# Altium footprint library Fixed_inductor_Pcb.PcbLib: 3 footprints
Each footprint in its own frame and in the unit in brackets; x right, y up, seen from the top. Pads: shape width x height; smd on the part's side, far side on the other; paste and mask are expansions set on the pad; w line width, h text height; cw(c..) or ccw(c..) is an arc to the next point about the centre after c.
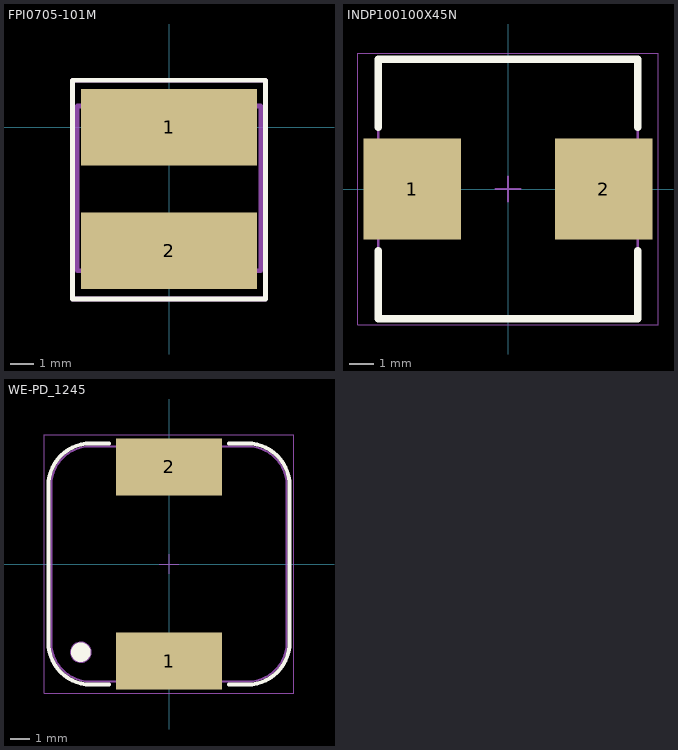
[diagram p0: the footprints below, top view; thin cyan lines are the x and y axes]

## FPI0705-101M [mm]
pads (2):
  rect 7.5x3.25 smd paste+0 mask+0.1: 1(0,0) 2(0,-5.25)
Top Overlay:
  lines w0.2: -4.1,-7.3 4.1,-7.3 4.1,2 -4.1,2 -4.1,-7.3
Mechanical 13:
  lines w0.2: -3.9,-6.1 3.9,-6.1 3.9,0.9 -3.9,0.9 -3.9,-6.1
  text "'.designator'" at -3.45,-5.483 h0.5
Mechanical 15:
  lines w0.2: -4.1,-7.3 4.1,-7.3 4.1,2 -4.1,2 -4.1,-7.3
3D body "fixed inductor 7_3x7_3x4_2.step": height 4.3, standoff 0.01, extent -3.65,-6.3 3.65,1.1

## INDP100100X45N [mm] "Precision Wire Wound Inductor, 2-Leads, Body 10.00x10.00mm, IPC Medium Density"
height 4.5
pads (2):
  rect 3.95x4.1 smd: 1(-3.875,0) 2(3.875,0)
Top Overlay:
  lines w0.3: -5.25,-2.5 -5.25,-5.25 5.25,-5.25 5.25,-2.5 ; -5.25,2.5 -5.25,5.25 5.25,5.25 5.25,2.5
Mechanical 13:
  lines w0.1: -5.25,-5.25 5.25,-5.25 5.25,5.25 -5.25,5.25 -5.25,-5.25
Mechanical 15:
  lines w0.05: -6.075,-5.5 6.075,-5.5 6.075,5.5 -6.075,5.5 -6.075,-5.5
  lines w0.1: -0.5,0 0.5,0 ; 0,-0.5 0,0.5
3D body "fixed_inductor.step": height 7.42, standoff 0.01, extent -6,-6 6,6

## WE-PD_1245 [mm] "SMT Shielded Power Inductor, 2-leads, body 12x12mm"
height 4.5
pads (2):
  rect 5.4x2.9 smd: 1(0,-4.95) 2(0,4.95)
Top Overlay:
  circle w0.5: c-4.5,-4.5 r0.25
  lines w0.2: -3.05,-6.15 -4,-6.15 cw(c-4,-4) -6.15,-4 -6.15,4 cw(c-4,4) -4,6.15 -3.05,6.15 ; 3.05,-6.15 4,-6.15 ccw(c4,-4) 6.15,-4 6.15,4 ccw(c4,4) 4,6.15 3.05,6.15
Mechanical 1:
  text ".Designator" at -2.5,-0.75 h1
Mechanical 11:
  circle w0.1: c-4.5,-4.5 r0.5
  lines w0.1: -6,-4 ccw(c-4,-4) -4,-6 4,-6 ccw(c4,-4) 6,-4 6,4 ccw(c4,4) 4,6 -4,6 ccw(c-4,4) -6,4 -6,-4
Mechanical 13:
  circle w0.1: c-4.5,-4.5 r0.5
  lines w0.1: -6,-4 ccw(c-4,-4) -4,-6 4,-6 ccw(c4,-4) 6,-4 6,4 ccw(c4,4) 4,6 -4,6 ccw(c-4,4) -6,4 -6,-4
Mechanical 15:
  lines w0.05: -0.5,0 0.5,0 ; 0,-0.5 0,0.5 ; -6.35,-6.6 6.35,-6.6 6.35,6.6 -6.35,6.6 -6.35,-6.6
3D body "WE-PD_1245_m-base_7447715xx.stp": height 3.96, standoff 0, extent -6,-6 6,6